# Altium schematic symbol library Bagryanets-Schlib.SchLib: 43 symbols
Pins are listed as number, name and electrical type; pins without a type are passive.

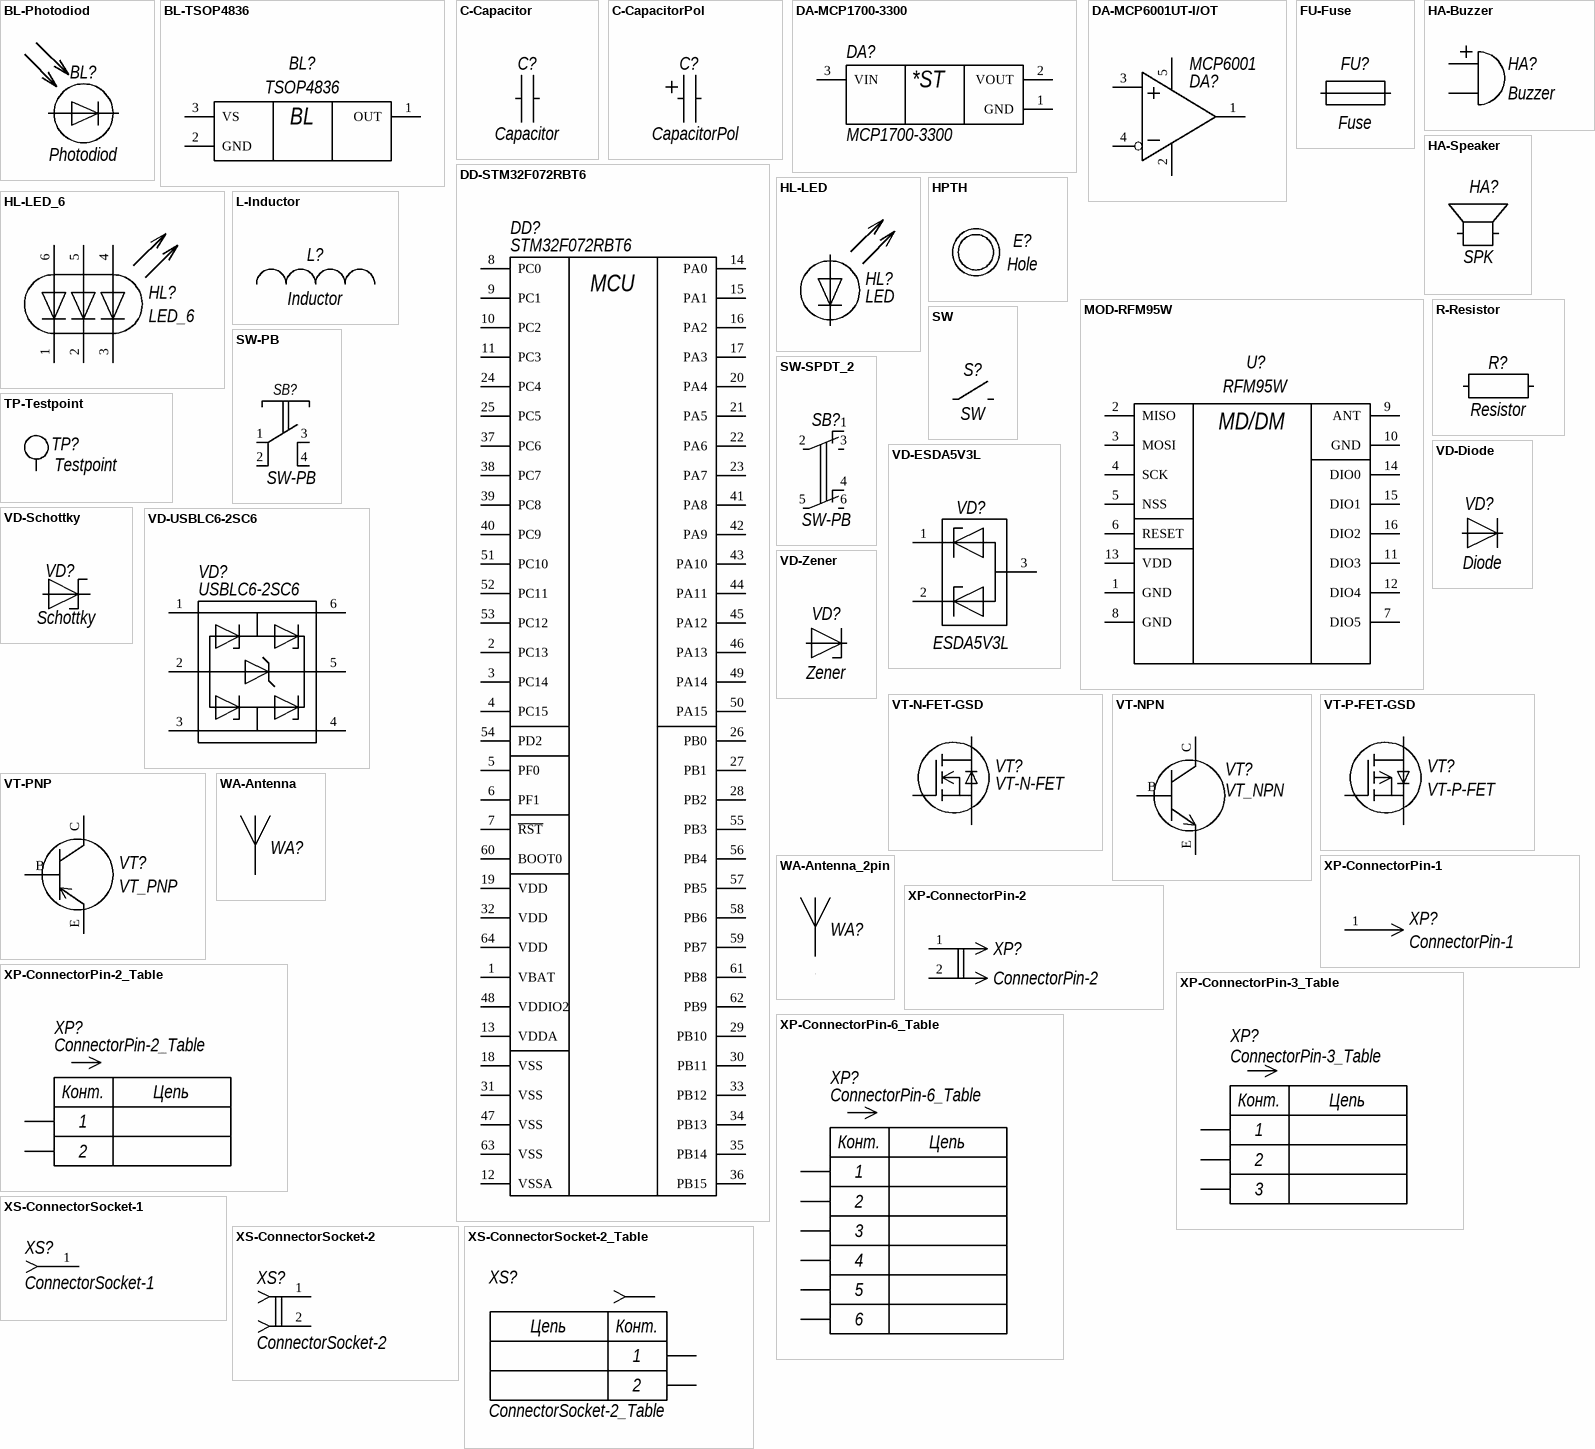
[diagram p0: symbols BL-Photodiod to XS-ConnectorSocket-2_Table]

## BL-Photodiod
designator BL?, comment Photodiod
footprint LED_5mm (THD, 2-Leads, Dia 5.8mm, Pitch 2.54mm)
pins: A, C
1 alternate drawing of the same symbol

## BL-TSOP4836
designator BL?, comment TSOP4836
footprint TO92_TSOP4836
pins: 1 OUT, 2 GND (power), 3 VS (power)
text: BL

## C-Capacitor
designator C?, comment Capacitor
footprint CAP: 0402
footprint CAP: 0603
footprint CAP: 0805
pins: 1, 2

## C-CapacitorPol
designator C?, comment CapacitorPol
pins: 1, 2

## DA-MCP1700-3300
designator DA?, comment MCP1700-3300
footprint SOT23
pins: 1 GND (power), 2 VOUT (power), 3 VIN (power)
text: *ST

## DA-MCP6001UT-I/OT
designator DA?, comment MCP6001
IC OPAMP GP 1 CIRCUIT SOT23-5; Number of Amplifiers: 1; Voltage: 6V; Power Supply Rejection Ratio (PSRR): 86dB; Common Mode Rejection Ratio: 60dB; Unity Gain Bandwidth Product: 1MHz; Slew Rate: 0.6V/µs; Output Current per Channel: 23mA; Nominal Supply Current: 100uA; Input Offset Voltage (Vos): 4.5mV; Input Bias Current: 1pA; Operating Supply Voltage: 5.5V; Min Supply Voltage: 1.8V; Voltage Gain: 112dB; Length: 3.1mm; REACH SVHC: No SVHC; Number of Pins: 5; Package Quantity: 1; Radiation Hardening: No; Mount: Surface Mount; Number of Circuits: 1; Number of Elements: 1; Output Current: 23mA; Packaging: Tape and Reel; Height: 1.3mm; Lead Free: Lead Free; Min Operating Temperature: -40°C; Bandwidth: 1MHz; Contact Plating: Tin; Max Supply Voltage: 6V; Max Operating Temperature: 85°C; Width: 1.8mm; Case/Package: SOT-23; Operating Supply Current: 100uA; Number of Channels: 1; Gain Bandwidth Product: 1MHz
footprint SOT23-5 (pitch 0.95 mm)
pins: 1 VOUT, 2 VSS (power), 3 VIN+, 4 VIN-, 5 VDD (power)

## DD-STM32F072RBT6
designator DD?, comment STM32F072RBT6
ARM® Cortex®-M0 STM32 F0 Microcontroller IC 32-Bit 48MHz 128KB (128K x 8) FLASH 64-LQFP (10x10); PartNumber: STM32F103CBT6TR; Manufacturer: STMicroelectronics; Supply Voltage(Vcc) min (V): 2; Packing: Tape and Reel; I/Os (High Current): 37; Operating Frequency(F) (Processor speed) (MHz): 72; A/D Converter: 2x12-bit (10 Channel); Core: ARM Cortex-M3; Internal RAM Size (kB): 20; FLASH Size (Prog) (kB): 128; ComponentLink1Description: Manufacturer URL; ComponentLink2Description: Datasheet; PackageReference: LQFP48; DatasheetVersion: Rev. 16; ComponentLink1URL: http://www.st.com/web/en/home.html; PackageDescription: 48-Pin Low Profile Quad Flat Package, 7 x 7 mm Body, 0.5 mm Pitch; ComponentLink3URL: http://www.st.com/st-web-ui/static/active/en/resource/technical/document/datasheet/DM00058181.pdf; ComponentLink2URL: http://www.st.com/st-web-ui/static/active/en/resource/technical/document/datasheet/CD00161566.pdf; PackageVersion: Rev. 6, 06/2013; Mounting Technology: Surface Mount; ComponentLink3Description: Package Specification; Supplier: Rs; Supplier Part Number: 9074757P; Manufacturer Part Number: STM32F072RBT6; RoHS: Yes; Category: Microcontrollers; Stock: 2446; Pricing: 10=4,9, 100=4,245, 250=4,04, 500=3,63 (GBP); ComponentLink4URL: https://datasheet.ciiva.com/48492/dm00090510-48492217.pdf?src-supplier=Avnet; ComponentLink4Description: https://datasheet.ciiva.com/48492/dm00090510-48492217.pdf?src-supplier=Avnet
footprint 64-LQFP (Thin QFP, 64-Leads, Body 10x10mm, Pitch 0.5mm, IPC Medium Density)
pins: 1 VBAT (power), 2 PC13, 3 PC14, 4 PC15, 5 PF0, 6 PF1, 7 ~{RST}, 8 PC0, 9 PC1, 10 PC2, 11 PC3, 12 VSSA (power), 13 VDDA (power), 14 PA0, 15 PA1, 16 PA2, 17 PA3, 18 VSS (power), 19 VDD (power), 20 PA4, 21 PA5, 22 PA6, 23 PA7, 24 PC4, 25 PC5, 26 PB0, 27 PB1, 28 PB2, 29 PB10, 30 PB11, 31 VSS (power), 32 VDD (power), 33 PB12, 34 PB13, 35 PB14, 36 PB15, 37 PC6, 38 PC7, 39 PC8, 40 PC9, 41 PA8, 42 PA9, 43 PA10, 44 PA11, 45 PA12, 46 PA13, 47 VSS (power), 48 VDDIO2 (power), 49 PA14, 50 PA15, 51 PC10, 52 PC11, 53 PC12, 54 PD2, 55 PB3, 56 PB4, 57 PB5, 58 PB6, 59 PB7, 60 BOOT0, 61 PB8, 62 PB9, 63 VSS (power), 64 VDD (power)
text: MCU

## FU-Fuse
designator FU?, comment Fuse
footprint FUSE: 1812
pins: 1, 2

## HA-Buzzer
designator HA?, comment Buzzer
footprint Buzzer_9x5mm
pins: 1, 2

## HA-Speaker
designator HA?, comment SPK
pins: 1, 2

## HL-LED
designator HL?, comment LED
footprint LED_5mm (THD, 2-Leads, Dia 5.8mm, Pitch 2.54mm)
pins: A, C
1 alternate drawing of the same symbol

## HL-LED_6
designator HL?, comment LED_6
footprint LED_5050 (SMT Mono-color TOP LED Waterclear, body 5x5mm)
pins: 1, 2, 3, 4, 5, 6
1 alternate drawing of the same symbol

## HPTH
designator E?, comment Hole
footprint HPTH 2.5mm

## L-Inductor
designator L?, comment Inductor
footprint IND: 0603
footprint IND: 0402
footprint IND: 0805
pins: 1, 2
1 alternate drawing of the same symbol

## MOD-RFM95W
designator U?, comment RFM95W
Rfm95W LoRa Transceiver Module 868Mhz; Sensitivity: -123dBm; Current - Receiving: 12.1mA; Current - Transmitting: 120mA; Max Supply Voltage: 3.7V; Min Supply Voltage: 1.8V; Nominal Supply Current: 5.8mA; Number of GPIO: 6NUMBER; ComponentLink1Description: Manufacturer URL; ComponentLink2Description: Datasheet; ComponentLink1URL: http://www.st.com/web/en/home.html; ComponentLink3URL: http://www.st.com/st-web-ui/static/active/en/resource/technical/document/datasheet/DM00058181.pdf; ComponentLink2URL: http://www.st.com/st-web-ui/static/active/en/resource/technical/document/datasheet/CD00161566.pdf; ComponentLink3Description: Package Specification; Clock Frequency: 868MHz; Height: 1.8mm; ComponentLink4URL: https://www.rfsolutions.co.uk/downloads/1463993415RFM95_96_97_98W.pdf?src-supplier=Digikey; ComponentLink4Description: https://www.rfsolutions.co.uk/downloads/1463993415RFM95_96_97_98W.pdf?src-supplier=Digikey
footprint Module_RFM95W
pins: 1 GND, 2 MISO, 3 MOSI, 4 SCK, 5 NSS, 6 RESET, 7 DIO5, 8 GND, 9 ANT, 10 GND, 11 DIO3, 12 DIO4, 13 VDD, 14 DIO0, 15 DIO1, 16 DIO2
text: MD/DM

## R-Resistor
designator R?, comment Resistor
footprint RES: 0402
footprint RES: 0603
footprint RES: 0805
pins: 1, 2

## SW
designator S?
pins: 1, 2

## SW-PB
designator SB?
footprint TactileButton6x6
pins: 1, 2, 3, 4

## SW-SPDT_2
designator SB?, comment SW-PB
footprint SW-KLS7-P8.5x8.5
pins: 1, 2 1, 3, 4, 5, 6

## TP-Testpoint
designator TP?, comment Testpoint
footprint Testpoint_1mm
pins: 1

## VD-Diode
designator VD?, comment Diode
pins: 1 A, 2 C

## VD-ESDA5V3L
designator VD?, comment ESDA5V3L
footprint SOT23
pins: 1, 2, 3

## VD-Schottky
designator VD?, comment Schottky
footprint DIODE: SOD323
pins: A, C

## VD-USBLC6-2SC6
designator VD?, comment USBLC6-2SC6
ESD Suppressor Diode Arrays Uni-Dir 15kV@Air Gap/8kV@Contact Disc 6-Pin SOT-23 T/R; Manufacturer: STMicroelectronics; Direction: Unidirectional,Bidirectional; Value: 3.5pF; Operating Supply Voltage: 1.1V; Number of Channels: 2; Breakdown Voltage: 6V; Clamping Voltage: 17V; Reverse Standoff Voltage: 5.25V; Power Line Protection: Yes; Test Current: 1mA; Max Reverse Leakage Current: 150nA; Peak Pulse Current: 5A; Data Rate: 480Mbps; Number of Elements: 1; Working Voltage: 5V; Supplier: Rs; Supplier Part Number: 6247693P; Manufacturer Part Number: USBLC6-2SC6; RoHS: Yes; Category: TVS Diodes; Stock: 6950; Pricing: 10=101,409, 50=95,548, 100=90,505, 250=85,325, 500=81,1 (RUB); Mounting Technology: Surface Mount; Case/Package: SOT-23; Pins: 6; Min Operating Temperature: -40°C; Max Operating Temperature: 125°C; Packaging: Tape and Reel; Package Quantity: 3000; Termination: SMD/SMT; Number of Bidirectional Channels: 2; Min Breakdown Voltage: 6V; ESD Protection: Yes; Leakage Current: 150nA; Series: USB; Reverse Breakdown Voltage: 6V; Polarity: Unidirectional,Bidirectional; Max Breakdown Voltage: 6V; Clamping Voltage-Max: 17V; Max Repetitive Reverse Voltage (Vrrm): 5.25V; Length: 3.05mm; Width: 1.75mm; Height: 1.3mm; Depth: 1.75mm; Radiation Hardening: No; Lead Free: Lead Free; Reach SVHC Compliant: No; RoHS Compliant: Yes; ComponentLink1URL: https://datasheet.ciiva.com/1268/1690354-1268384.pdf?src-supplier=Element14; ComponentLink1Description: https://datasheet.ciiva.com/1268/1690354-1268384.pdf?src-supplier=Element14; ComponentLink2URL: https://datasheet.ciiva.com/4508/cd00050750-113117-4508433.pdf?src-supplier=Mouser; ComponentLink2Description: https://datasheet.ciiva.com/4508/cd00050750-113117-4508433.pdf?src-supplier=Mouser; ComponentLink3URL: https://datasheet.ciiva.com/15143/getdatasheetpartid-148465-15143789.pdf?src-supplier=Verical; ComponentLink3Description: https://datasheet.ciiva.com/15143/getdatasheetpartid-148465-15143789.pdf?src-supplier=Verical; ComponentLink4URL: https://datasheet.ciiva.com/16200/cd00050750-16200026.pdf?src-supplier=Future+Electronics; ComponentLink4Description: https://datasheet.ciiva.com/16200/cd00050750-16200026.pdf?src-supplier=Future+Electronics; ComponentLink5URL: https://datasheet.ciiva.com/41444/001184109-da-01-en-ic-esd-protecti-usblc6-2sc6-sot-23-6-stm-41444156.pdf?src-supplier=Conrad; ComponentLink5Description: https://datasheet.ciiva.com/41444/001184109-da-01-en-ic-esd-protecti-usblc6-2sc6-sot-23-6-stm-41444156.pdf?src-supplier=Conrad
footprint SOT23-6 (pitch 0.95 mm)
pins: 1 IO1, 2 GND, 3 IO2, 4 IO2, 5 VCC, 6 IO1

## VD-Zener
designator VD?, comment Zener
pins: 1 A, 2 C

## VT-N-FET-GSD
designator VT?, comment VT-N-FET
footprint SOT23
pins: 1 G, 2 S, 3 D

## VT-NPN
designator VT?, comment VT_NPN
pins: B, C, E

## VT-P-FET-GSD
designator VT?, comment VT-P-FET
pins: 1 G, 1 G, 2 S, 2 S, 3 D, 3 D

## VT-PNP
designator VT?, comment VT_PNP
pins: B, C, E

## WA-Antenna
designator WA?, comment Antenna  (value not drawn)
pins: 1

## WA-Antenna_2pin
designator WA?, comment Antenna  (value not drawn)
pins: 1, 2

## XP-ConnectorPin-1
designator XP?, comment ConnectorPin-1
pins: 1

## XP-ConnectorPin-2
designator XP?, comment ConnectorPin-2
footprint PLS-2R
footprint PLS-2
pins: 1, 2
2 alternate drawings of the same symbol

## XP-ConnectorPin-2_Table
designator XP?, comment ConnectorPin-2_Table
footprint PLS-2R
footprint PLS-2
pins: 1, 2
2 alternate drawings of the same symbol
text: Конт.; Цепь

## XP-ConnectorPin-3_Table
designator XP?, comment ConnectorPin-3_Table
pins: 1, 2, 3
2 alternate drawings of the same symbol
text: Конт.; Цепь

## XP-ConnectorPin-6_Table
designator XP?, comment ConnectorPin-6_Table
footprint PLS-6R
footprint PLS-6
pins: 1, 2, 3, 4, 5, 6
2 alternate drawings of the same symbol
text: Конт.; Цепь

## XS-ConnectorSocket-1
designator XS?, comment ConnectorSocket-1
pins: 1
2 alternate drawings of the same symbol

## XS-ConnectorSocket-2
designator XS?, comment ConnectorSocket-2
pins: 1, 2
2 alternate drawings of the same symbol

## XS-ConnectorSocket-2_Table
designator XS?, comment ConnectorSocket-2_Table
pins: 1, 2
2 alternate drawings of the same symbol
text: Цепь; Конт.

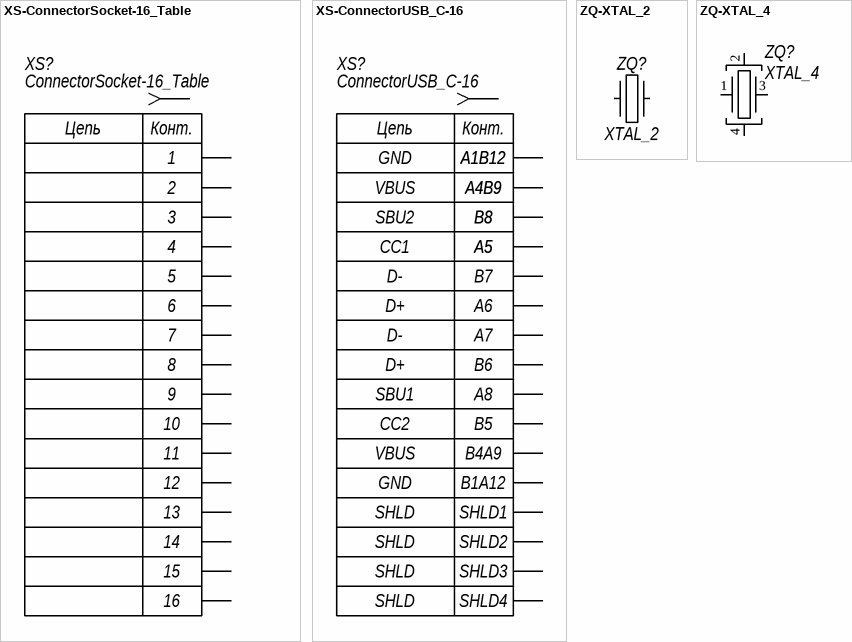
[diagram p1: symbols XS-ConnectorSocket-16_Table to ZQ-XTAL_4]

## XS-ConnectorSocket-16_Table
designator XS?, comment ConnectorSocket-16_Table
pins: 1, 2, 3, 4, 5, 6 62, 7, 8, 9, 10, 11, 12, 13, 14, 15, 16
2 alternate drawings of the same symbol
text: Цепь; Конт.

## XS-ConnectorUSB_C-16
designator XS?, comment ConnectorUSB_C-16
footprint USB-C_16PF-015
pins: A1B12 (power), A4B9 (power), A5, A6, A7, A8 (power), B1A12 (power), B4A9 (power), B5, B6, B7, B8 (power), SHLD1, SHLD2, SHLD3, SHLD4
2 alternate drawings of the same symbol
text: Цепь; Конт.; GND; VBUS; SBU2; CC1; D-; D+; SBU1; CC2; SHLD

## ZQ-XTAL_2
designator ZQ?, comment XTAL_2
footprint OSC: 3215
pins: 1, 2

## ZQ-XTAL_4
designator ZQ?, comment XTAL_4
footprint OSC: 3225
pins: 1, 2 (power), 3, 4 (power)